# EAGLE library part MA06-2 (library STEMTera)
Pin Header 2x6 Dual Row 0.1inch 2.54mm
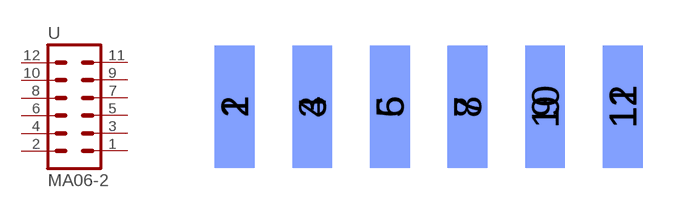
[diagram p12: symbol with the pads of BOX-HEADER-EDGE-2X6; footprint BOX-HEADER-EDGE-2X6]

Designator prefix -

## MA06-2  [BOX-HEADER-EDGE-2X6]
1  1  pas
2  2  pas
3  3  pas
4  4  pas
5  5  pas
6  6  pas
7  7  pas
8  8  pas
9  9  pas
10  10  pas
11  11  pas
12  12  pas

## Footprint BOX-HEADER-EDGE-2X6 (pad centres in mm)
Box Header Mounted on PCB Edge 2x6 0.1inch 2.54mm Pitch
smd 1.3 x 4: 1 0,0; 3 2.54,0; 5 5.08,0; 7 7.62,0; 9 10.16,0; 11 12.7,0
smd 1.3 x 4 bottom: 2 0,0; 4 2.54,0; 6 5.08,0; 8 7.62,0; 10 10.16,0; 12 12.7,0